# Altium footprint library THU_VIEN_1.PcbLib: 76 footprints (part 4 of 5)
Each footprint in its own frame and in the unit in brackets; x right, y up, seen from the top. Pads: shape width x height; smd on the part's side, far side on the other; paste and mask are expansions set on the pad; w line width, h text height; cw(c..) or ccw(c..) is an arc to the next point about the centre after c.
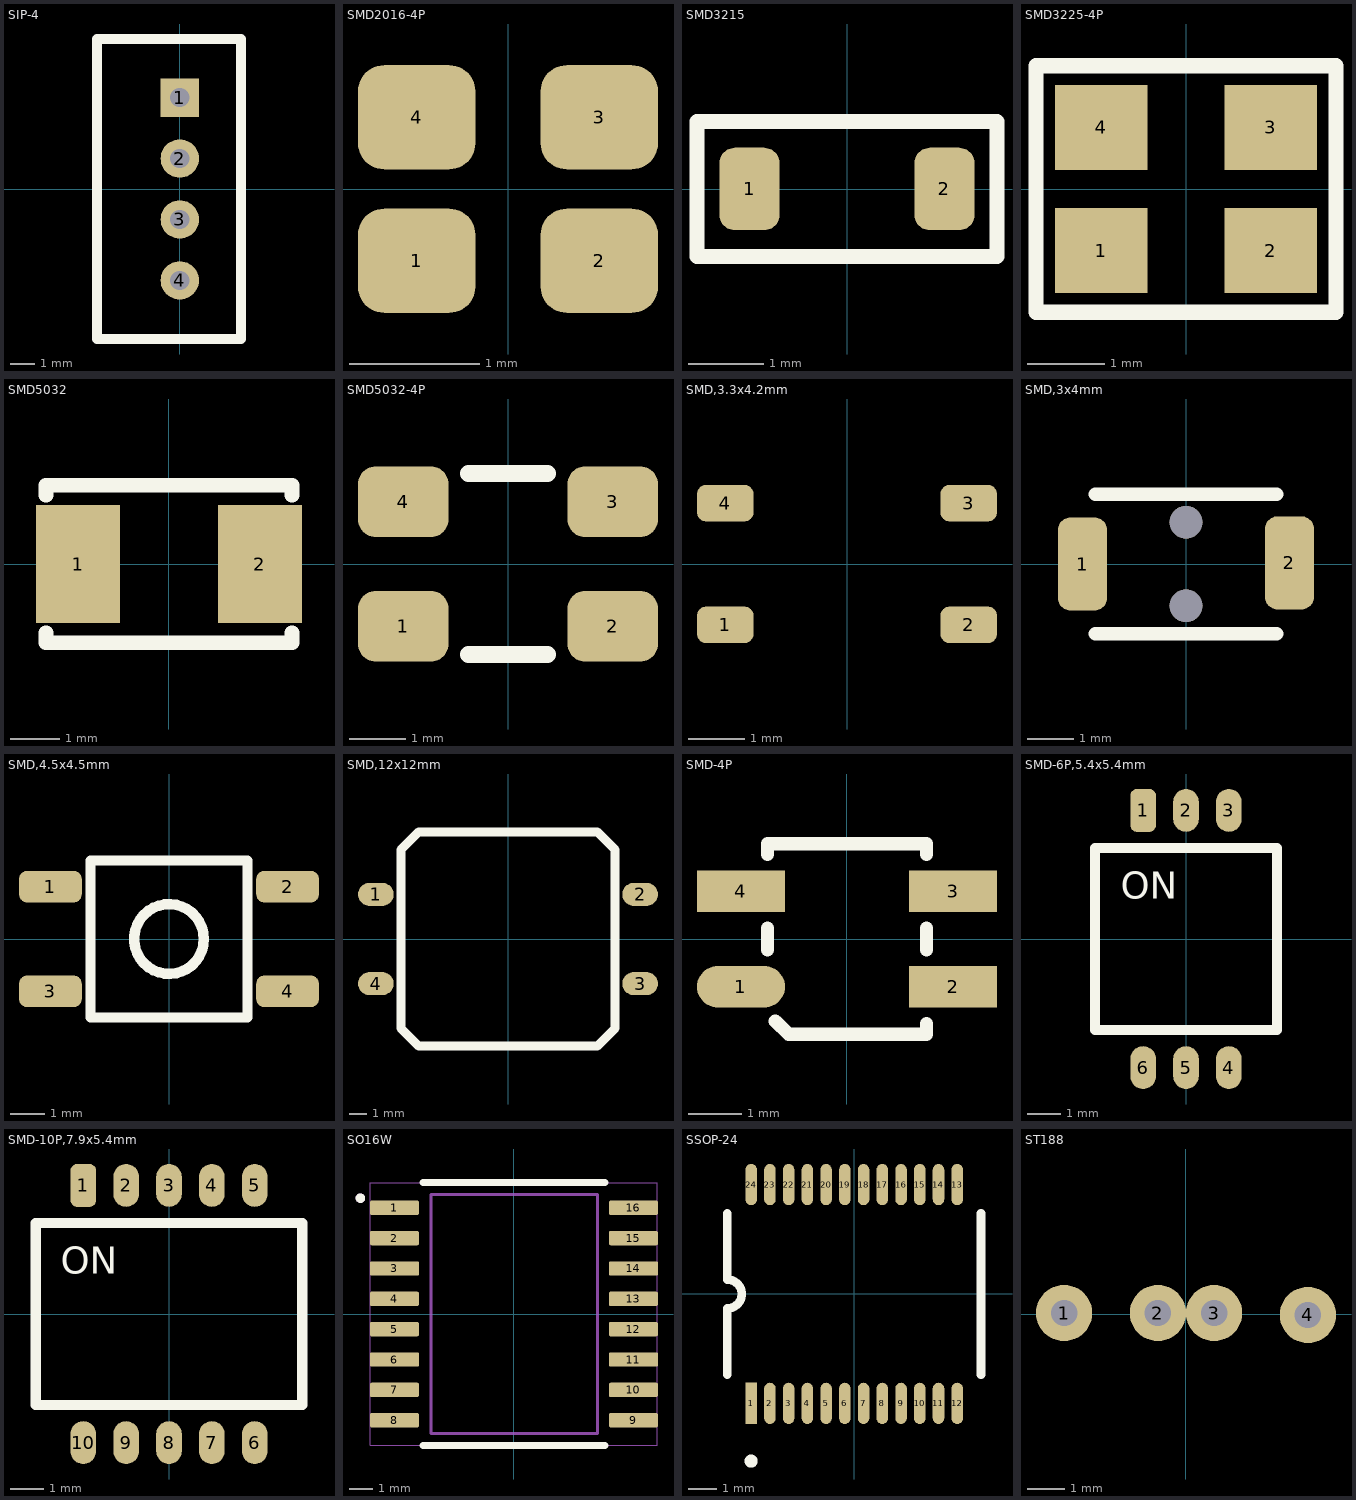
[diagram p3: the footprints below, top view; thin cyan lines are the x and y axes]

## SIP-4 [mm]
pads (4):
  rect 1.6x1.6 hole 0.8: 1(0,3.81)
  round 1.6 hole 0.8: 2(0,1.27) 3(0,-1.27) 4(0,-3.81)
Top Overlay:
  lines w0.4: -3.45,-6.25 2.55,-6.25 2.55,6.25 -3.45,6.25 -3.45,-6.25
3D body "User Library-DHT11.STEP": height 19.75, standoff -3.75, extent -2.9,-6 2.6,6

## SMD2016-4P [mm]
pads (4):
  rrect50% 0.9x0.8 smd: 1(-0.7,-0.55) 2(0.7,-0.55) 3(0.7,0.55) 4(-0.7,0.55)
3D body "XRCGB25M000F3M00R0.STEP": height 0.7, standoff 0, extent -1,-0.8 1,0.8

## SMD3215 [mm]
pads (2):
  rrect50% 0.8x1.1 smd: 1(-1.3,0) 2(1.3,0)
Top Overlay:
  lines w0.2: -2,-0.9 -2,0.9 2,0.9 2,-0.9 -2,-0.9
3D body "NDK_NX3215SA-32.768K-STD-MUA-8.STEP": height 0.9, standoff 0, extent -1.6,-0.75 1.6,0.75

## SMD3225-4P [mm]
pads (4):
  rect 1.2x1.1 smd: 1(-1.1,-0.8) 2(1.1,-0.8) 3(1.1,0.8) 4(-1.1,0.8)
Top Overlay:
  lines w0.2: -1.95,-1.6 1.95,-1.6 1.95,1.6 1.6,1.6 -1.6,1.6 -1.95,1.6 -1.95,-1.6
3D body "NX3225SA v2.step": height 0.55, standoff 0, extent -1.6,-1.25 1.6,1.25

## SMD5032 [mm]
pads (2):
  rect 1.7x2.4 smd: 1(-1.85,0) 2(1.85,0)
Top Overlay:
  lines w0.3: -2.5,-1.4 -2.5,-1.6 2.5,-1.6 2.5,-1.4 ; -2.5,1.4 -2.5,1.6 2.5,1.6 2.5,1.4
3D body "crystal 8MHz.stp": height 1.2, standoff 0, extent -2.5,-1.6 2.5,1.6

## SMD5032-4P [mm]
pads (4):
  rrect50% 1.6x1.25 smd: 1(-1.85,-1.1) 2(1.85,-1.1) 3(1.85,1.1) 4(-1.85,1.1)
Top Overlay:
  lines w0.3: -0.7,-1.6 0.7,-1.6 ; -0.7,1.6 0.7,1.6
3D body "step_temp.STEP": height 0.85, standoff 0, extent -2.5,-1.6 2.5,1.6

## SMD,3.3x4.2mm [mm]
pads (4):
  rrect50% 1x0.65 smd: 1(-2.15,-1.075) 2(2.15,-1.075) 3(2.15,1.075) 4(-2.15,1.075)
3D body "PTS815SJK250.stp": height 2.5, standoff 0, extent -2.35,-1.65 2.35,1.65

## SMD,3x4mm [mm]
pads (4):
  rrect50% 1.05x2 smd: 1(-2.225,0) 2(2.225,0.025)
  round 0.7 hole 0.7 mask+0.102: ""(0,-0.9) ""(0,0.9)
Top Overlay:
  lines w0.3: -1.95,-1.5 1.95,-1.5 ; -1.95,1.5 1.95,1.5
3D body "3x4x2mm_-_2_Pad[1].stp": height 1.93, standoff 0, extent -2.502,-1.499 2.502,1.499

## SMD,4.5x4.5mm [mm]
pads (4):
  rrect50% 1.8x0.9 smd: 1(-3.4,1.5) 2(3.4,1.5) 3(-3.4,-1.5) 4(3.4,-1.5)
Top Overlay:
  circle w0.3: c0,0 r1
  lines w0.3: -2.25,-2.25 -2.25,2.25 2.25,2.25 2.25,-2.25 -2.25,-2.25
3D body "Tact Switch SMD 4.5x4.5mm.stp": height 3.8, standoff 0, extent -3.75,-2.25 3.75,2.25

## SMD,12x12mm [mm]
pads (4):
  oval 2x1.3 smd mask+0.15: 1(-7.4,2.5) 2(7.4,2.5) 3(7.4,-2.5) 4(-7.4,-2.5)
Top Overlay:
  lines w0.5: -6,-5 -5,-6 5,-6 6,-5 6,-3.5 6,3.5 6,5 5,6 -5,6 -6,5 -6,3.5 -6,-3.5 -6,-5
3D body "Big_pushbutton.stp": height 7.3, standoff 0, extent -7.8,-6 7.8,6

## SMD-4P [mm]
pads (4):
  oval 1.66x0.79 smd: 1(-2,-0.9)
  rect 1.66x0.79 smd: 2(2,-0.9) 3(2,0.9) 4(-2,0.9)
Top Overlay:
  lines w0.254: -1.5,-0.2 -1.5,0.2 ; -1.5,1.6 -1.5,1.8 0,1.8 1.5,1.8 1.5,1.6 ; -1.35,-1.55 -1.1,-1.8 0,-1.8 1.5,-1.8 1.5,-1.6 ; 1.5,-0.2 1.5,0.2
3D body "User Library-QRE1113GR.STEP": height 1.7, standoff -0.15, extent -2.4,-1.8 2.4,1.8

## SMD-6P,5.4x5.4mm [mm]
pads (6):
  rrect50% 0.76x1.27 smd: 1(-1.27,3.81)
  oval 0.76x1.27 smd: 2(0,3.81) 3(1.27,3.81) 4(1.27,-3.81) 5(0,-3.81) 6(-1.27,-3.81)
Top Overlay:
  lines w0.3: -2.7,-2.7 2.7,-2.7 2.7,2.7 -2.7,2.7 -2.7,-2.7
  text "ON" at -1.936,1.2 h0.8
3D body "416131160803+%28rev1%29.stp": height 2.1, standoff 0, extent -2.425,-4 2.425,4

## SMD-10P,7.9x5.4mm [mm]
pads (10):
  rrect50% 0.76x1.27 smd: 1(-2.54,3.81)
  oval 0.76x1.27 smd: 2(-1.27,3.81) 3(0,3.81) 4(1.27,3.81) 5(2.54,3.81) 6(2.54,-3.81) 7(1.27,-3.81) 8(0,-3.81) 9(-1.27,-3.81) 10(-2.54,-3.81)
Top Overlay:
  lines w0.3: -3.95,-2.7 3.95,-2.7 3.95,2.7 -3.95,2.7 -3.95,-2.7
  text "ON" at -3.206,1.2 h0.8
3D body "416131160805+%28rev1%29.stp": height 2.1, standoff 0, extent -3.695,-4 3.695,4

## SO16W [mm]
pads (16):
  rrect25% 2.06x0.6 smd: 1(-5,4.445) 2(-5,3.175) 3(-5,1.905) 4(-5,0.635) 5(-5,-0.635) 6(-5,-1.905) 7(-5,-3.175) 8(-5,-4.445) 9(5,-4.445) 10(5,-3.175) 11(5,-1.905) 12(5,-0.635) 13(5,0.635) 14(5,1.905) 15(5,3.175) 16(5,4.445)
Top Overlay:
  circle w0.2: c-6.422,4.845 r0.1
  lines w0.3: -3.8,-5.5 3.8,-5.5 ; -3.8,5.5 3.8,5.5
3D:
  circle w0.2: c-6.422,4.845 r0.1
  lines w0.127: -3.473,-5 3.5,-5 3.5,5 -3.282,5 -3.473,5 -3.473,-5
Mechanical 15:
  lines w0.05: -6,-5.5 -6,5.5 6,5.5 6,-5.5 -6,-5.5
3D body "SO16W.STEP": height 2.34, standoff -0.19, extent -5.272,-5.11 5.272,5.2

## SSOP-24 [mm]
pads (24):
  rect 0.4x1.43 smd: 1(-3.575,-3.795)
  oval 0.4x1.43 smd: 2(-2.925,-3.795) 3(-2.275,-3.795) 4(-1.625,-3.795) 5(-0.975,-3.795) 6(-0.325,-3.795) 7(0.325,-3.795) 8(0.975,-3.795) 9(1.625,-3.795) 10(2.275,-3.795) 11(2.925,-3.795) 12(3.575,-3.795) 13(3.575,3.795) 14(2.925,3.795) 15(2.275,3.795) 16(1.625,3.795) 17(0.975,3.795) 18(0.325,3.795) 19(-0.325,3.795) 20(-0.975,3.795) 21(-1.625,3.795) 22(-2.275,3.795) 23(-2.925,3.795) 24(-3.575,3.795)
Top Overlay:
  circle w0.254: c-3.575,-5.8 r0.1
  lines w0.3: -4.4,-2.795 -4.4,-0.5 ccw(c-4.4,0) -4.4,0.5 -4.4,2.805 ; 4.4,-2.795 4.4,2.805
3D body "User Library-SSOP 24 PIN_.STEP": height 1.98, standoff -0.01, extent -4.315,-3.95 4.315,3.95

## ST188 [mm]
pads (4):
  round 1.5 hole 0.7: 1(-3.25,0.025) 2(-0.75,0.025) 3(0.75,0.025) 4(3.25,-0.025)
3D body "User Library-ST 188.STEP": height 8.2, standoff -15.05, extent -4.5,-2.5 4.5,2.5